# Altium footprint library NetTie.PcbLib: 1 footprints
Each footprint in its own frame and in the unit in brackets; x right, y up, seen from the top. Pads: shape width x height; smd on the part's side, far side on the other; paste and mask are expansions set on the pad; w line width, h text height; cw(c..) or ccw(c..) is an arc to the next point about the centre after c.
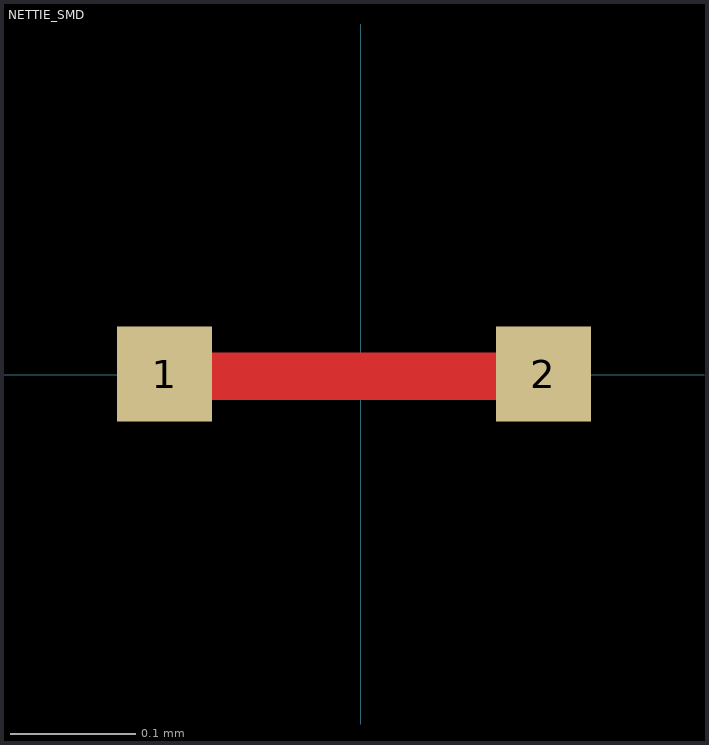
[diagram p0: the footprint, top view; thin cyan lines are the x and y axes]

## NETTIE_SMD [mil] "Net Tie"
pads (2):
  rect 3x3 smd mask-393.7: 1(-6.17,0.03) 2(5.74,0.03)
Top Layer:
  rectangle: -5.11,-0.79 4.89,0.71